# Altium footprint library KEYSTONE_91.PcbLib: 1 footprints
Each footprint in its own frame and in the unit in brackets; x right, y up, seen from the top. Pads: shape width x height; smd on the part's side, far side on the other; paste and mask are expansions set on the pad; w line width, h text height; cw(c..) or ccw(c..) is an arc to the next point about the centre after c.
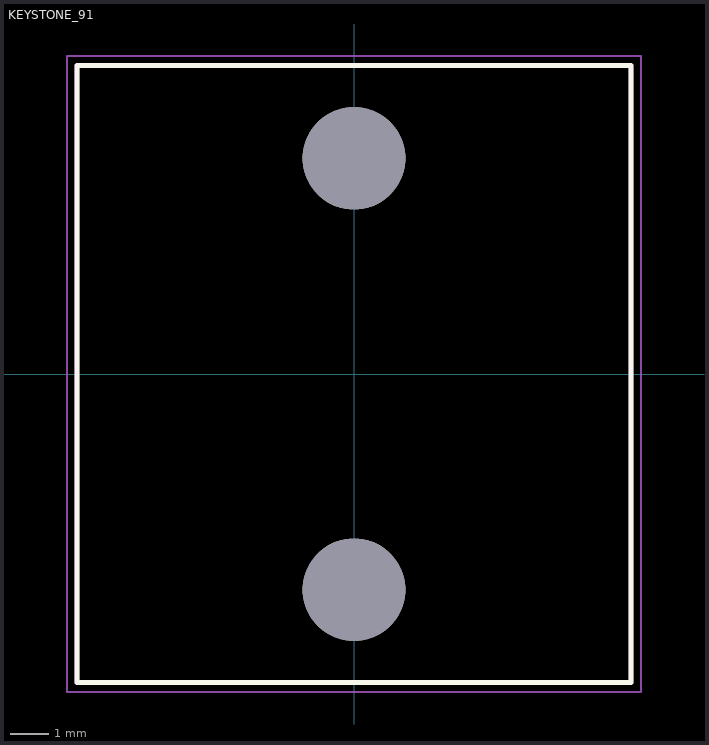
[diagram p0: the footprint, top view; thin cyan lines are the x and y axes]

## KEYSTONE_91 [mm]
height 15.08
pads (2):
  round 2.64 hole 2.64 unplated: ""(0,-5.55) ""(0,5.55)
Top Overlay:
  lines w0.127: -7.135,-7.94 -7.135,7.94 7.135,7.94 7.135,-7.94 -7.135,-7.94
Assembly Top:
  lines w0.127: -7.135,-7.94 -7.135,7.94 7.135,7.94 7.135,-7.94 -7.135,-7.94
Courtyard Top:
  lines w0.05: -7.385,-8.19 -7.385,8.19 7.385,8.19 7.385,-8.19 -7.385,-8.19
3D body "step_temp.STEP": height 14.29, standoff 0.01, extent -7.112,-7.938 7.162,7.938